# Altium footprint library Con Mod Jack PCB.PcbLib: 213 footprints (part 6 of 14)
Each footprint in its own frame and in the unit in brackets; x right, y up, seen from the top. Pads: shape width x height; smd on the part's side, far side on the other; paste and mask are expansions set on the pad; w line width, h text height; cw(c..) or ccw(c..) is an arc to the next point about the centre after c.
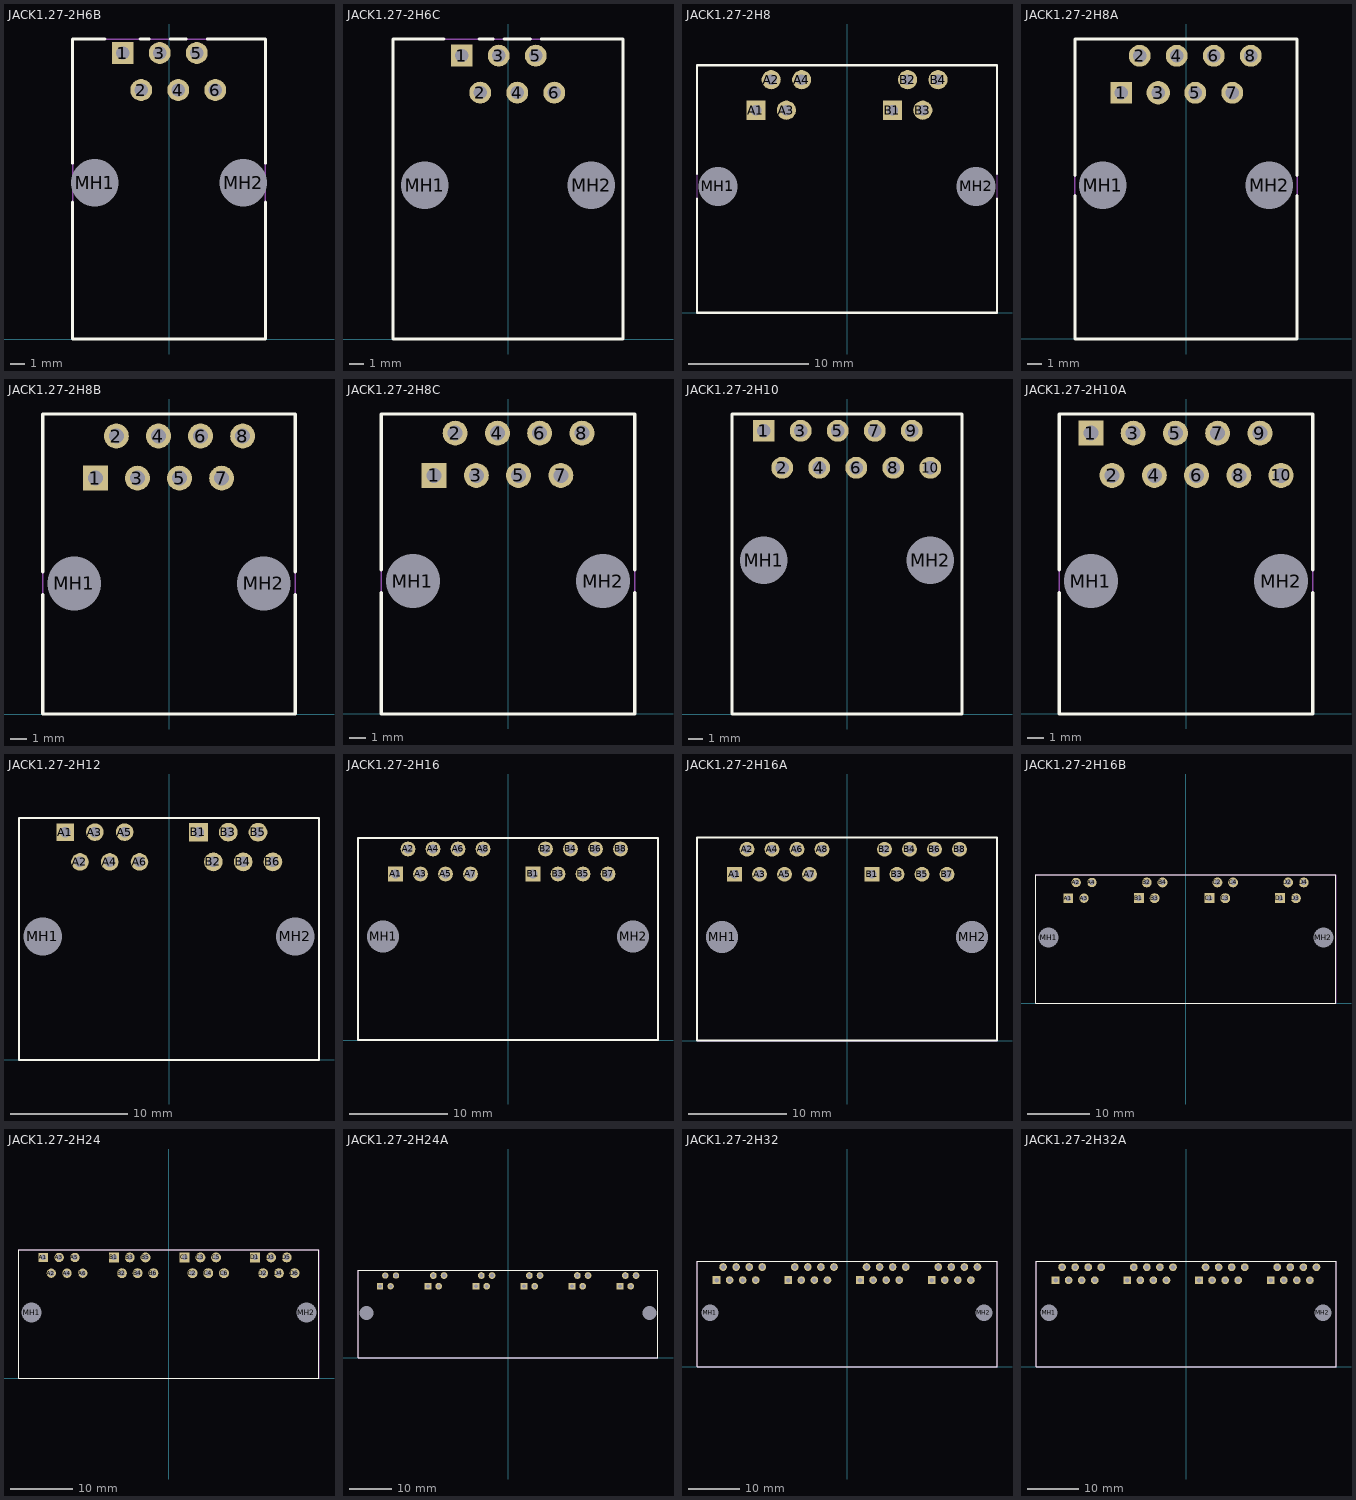
[diagram p5: the footprints below, top view; thin cyan lines are the x and y axes]

## JACK1.27-2H6B [mm] "Connector; PCB Jack, Thru-Hole; 1-Port; Unshielded without Lightpipes; Right Angle"
height 16
pads (8):
  rect 1.5x1.5 hole 0.9: 1(-3.175,19.61)
  round 1.5 hole 0.9: 2(-1.905,17.07) 3(-0.635,19.61) 4(0.635,17.07) 5(1.905,19.61) 6(3.175,17.07)
  round 2.95 hole 3.25 unplated: MH1(-5.08,10.72) MH2(5.08,10.72)
Top Overlay:
  lines w0.2: -6.605,9.388 -6.605,0 6.605,0 6.605,9.388 ; -6.605,12.052 -6.605,20.57 -4.375,20.57 ; -1.975,20.57 -1.355,20.57 ; 0.085,20.57 1.185,20.57 ; 2.625,20.57 6.605,20.57 6.605,12.052
Mechanical 13:
  lines w0.1: -6.605,0 -6.605,20.57 6.605,20.57 6.605,0 -6.605,0
3D body: height 16, standoff 0, extent -6.605,0 6.605,20.57

## JACK1.27-2H6C [mm] "Connector; PCB Jack, Thru-Hole; 1-Port, 8 Positions, 6 Loaded; Unshielded without Lightpipes; Right Angle"
height 12.83
pads (8):
  rect 1.5x1.5 hole 0.9: 1(-3.175,19.43)
  round 1.5 hole 0.9: 2(-1.905,16.89) 3(-0.635,19.43) 4(0.635,16.89) 5(1.905,19.43) 6(3.175,16.89)
  round 2.95 hole 3.25 unplated: MH1(-5.715,10.54) MH2(5.715,10.54)
Top Overlay:
  lines w0.2: -4.375,20.57 -7.875,20.57 -7.875,0 7.875,0 7.875,20.57 2.28,20.57 ; -1.975,20.57 -1.01,20.57 ; -0.26,20.57 1.53,20.57
Mechanical 13:
  lines w0.1: -7.875,0 -7.875,20.57 7.875,20.57 7.875,0 -7.875,0
3D body: height 12.83, standoff 0, extent -7.875,0 7.875,20.57

## JACK1.27-2H8 [mm] "Connector; PCB Jack, Thru-Hole; 2-Port, 6 Positions, 4 Loaded; Unshielded without Lightpipes; Right Angle"
height 12.83
pads (10):
  rect 1.6x1.6 hole 0.9: A1(-7.595,16.89) B1(3.785,16.89)
  round 1.6 hole 0.9: A2(-6.325,19.43) A3(-5.055,16.89) A4(-3.785,19.43) B2(5.055,19.43) B3(6.325,16.89) B4(7.595,19.43)
  round 2.95 hole 3.25 unplated: MH1(-10.77,10.54) MH2(10.77,10.54)
Top Overlay:
  lines w0.2: -12.512,9.509 -12.512,0 12.512,0 12.512,9.509 ; -12.512,11.571 -12.512,20.63 12.512,20.63 12.512,11.571
Mechanical 13:
  lines w0.1: -12.512,0 -12.512,20.63 12.512,20.63 12.512,0 -12.512,0
3D body: height 12.83, standoff 0, extent -12.512,0 12.512,20.63

## JACK1.27-2H8A [mm] "Connector; PCB Jack, Thru-Hole; 1-Port; Unshielded without Lightpipes; Right Angle"
height 18.92
pads (10):
  rect 1.5x1.5 hole 0.9: 1(-4.445,16.89)
  round 1.5 hole 0.9: 2(-3.175,19.43) 4(-0.635,19.43) 5(0.635,16.89) 6(1.905,19.43) 7(3.175,16.89) 8(4.445,19.43)
  round 1.6 hole 0.9: 3(-1.905,16.89)
  round 2.95 hole 3.25 unplated: MH1(-5.715,10.54) MH2(5.715,10.54)
Top Overlay:
  lines w0.2: -7.62,9.853 -7.62,0 7.62,0 7.62,9.853 ; -7.62,11.227 -7.62,20.58 7.62,20.58 7.62,11.227
Mechanical 13:
  lines w0.1: -7.62,0 -7.62,20.58 7.62,20.58 7.62,0 -7.62,0
3D body: height 18.92, standoff 0, extent -7.62,0 7.62,20.58

## JACK1.27-2H8B [mm] "Connector; PCB Jack, Thru-Hole; 1-Port, 8 Positions, 8 Loaded; Unshielded without Lightpipes; Right Angle"
height 8.65
pads (10):
  rect 1.5x1.5 hole 0.9: 1(-4.445,14.23)
  round 1.5 hole 0.9: 2(-3.175,16.77) 3(-1.905,14.23) 4(-0.635,16.77) 5(0.635,14.23) 6(1.905,16.77) 7(3.175,14.23) 8(4.445,16.77)
  round 2.95 hole 3.25 unplated: MH1(-5.715,7.88) MH2(5.715,7.88)
Top Overlay:
  lines w0.2: -7.62,7.193 -7.62,0 7.62,0 7.62,7.193 ; -7.62,8.567 -7.62,18.1 7.62,18.1 7.62,8.567
Mechanical 13:
  lines w0.1: -7.62,0 -7.62,18.1 7.62,18.1 7.62,0 -7.62,0
3D body: height 8.65, standoff 0, extent -7.62,0 7.62,18.1

## JACK1.27-2H8C [mm] "Connector; PCB Jack, Thru-Hole; 1-Port, 8 Positions, 8 Loaded; Unshielded without Lightpipes; Right Angle"
height 11.58
pads (10):
  rect 1.5x1.5 hole 0.9: 1(-4.445,14.344)
  round 1.5 hole 0.9: 2(-3.175,16.884) 3(-1.905,14.344) 4(-0.635,16.884) 5(0.635,14.344) 6(1.905,16.884) 7(3.175,14.344) 8(4.445,16.884)
  round 2.95 hole 3.25 unplated: MH1(-5.715,7.994) MH2(5.715,7.994)
Top Overlay:
  lines w0.2: -7.62,7.307 -7.62,0 7.62,0 7.62,7.307 ; -7.62,8.681 -7.62,18.034 7.62,18.034 7.62,8.681
Mechanical 13:
  lines w0.1: -7.62,0 -7.62,18.034 7.62,18.034 7.62,0 -7.62,0
3D body: height 11.58, standoff 0, extent -7.62,0 7.62,18.034

## JACK1.27-2H10 [mm] "Connector; PCB Jack, Thru-Hole; 1-Port, 8 Positions, 10 Loaded; Shielded without Lightpipes; Right Angle"
height 12.83
pads (12):
  rect 1.5x1.5 hole 0.9: 1(-5.715,19.43)
  round 1.5 hole 0.9: 2(-4.445,16.89) 3(-3.175,19.43) 4(-1.905,16.89) 5(-0.635,19.43) 6(0.635,16.89) 7(1.905,19.43) 8(3.175,16.89) 9(4.445,19.43) 10(5.715,16.89)
  round 2.95 hole 3.25 unplated: MH1(-5.715,10.54) MH2(5.715,10.54)
Top Overlay:
  lines w0.2: -7.875,0 7.875,0 7.875,20.58 -7.875,20.58 -7.875,0
Mechanical 13:
  lines w0.1: -7.875,0 -7.875,20.58 7.875,20.58 7.875,0 -7.875,0
3D body: height 12.83, standoff 0, extent -7.875,0 7.875,20.58

## JACK1.27-2H10A [mm] "Connector; PCB Jack, Thru-Hole; 1-Port, 8 Positions, 10 Loaded; Unshielded without Lightpipes; Right Angle"
height 11.58
pads (12):
  rect 1.5x1.5 hole 0.9: 1(-5.715,16.884)
  round 1.5 hole 0.9: 2(-4.445,14.344) 3(-3.175,16.884) 4(-1.905,14.344) 5(-0.635,16.884) 6(0.635,14.344) 7(1.905,16.884) 8(3.175,14.344) 9(4.445,16.884) 10(5.715,14.344)
  round 2.95 hole 3.25 unplated: MH1(-5.715,7.994) MH2(5.715,7.994)
Top Overlay:
  lines w0.2: -7.62,7.307 -7.62,0 7.62,0 7.62,7.307 ; -7.62,8.681 -7.62,18.034 7.62,18.034 7.62,8.681
Mechanical 13:
  lines w0.1: -7.62,0 -7.62,18.034 7.62,18.034 7.62,0 -7.62,0
3D body: height 11.58, standoff 0, extent -7.62,0 7.62,18.034

## JACK1.27-2H12 [mm] "Connector; PCB Jack, Thru-Hole; 2-Port, 6 Positions, 6 Loaded; Unshielded without Lightpipes; Right Angle"
height 12.83
pads (14):
  rect 1.5x1.5 hole 0.9: A1(-8.865,19.43)
  round 1.5 hole 0.9: A2(-7.595,16.89) A3(-6.325,19.43) A4(-5.055,16.89) A5(-3.785,19.43) A6(-2.515,16.89)
  rect 1.6x1.6 hole 0.9: B1(2.515,19.43)
  round 1.6 hole 0.9: B2(3.785,16.89) B3(5.055,19.43) B4(6.325,16.89) B5(7.595,19.43) B6(8.865,16.89)
  round 2.95 hole 3.25 unplated: MH1(-10.77,10.54) MH2(10.77,10.54)
Top Overlay:
  lines w0.2: -12.795,0 12.795,0 12.795,20.63 -12.795,20.63 -12.795,0
Mechanical 13:
  lines w0.1: -12.795,0 -12.795,20.63 12.795,20.63 12.795,0 -12.795,0
3D body: height 12.83, standoff 0, extent -12.795,0 12.795,20.63

## JACK1.27-2H16 [mm] "Connector; PCB Jack, Thru-Hole; 2-Port, 8 Positions, 8 Loaded; Unshielded without Lightpipes; Right Angle"
height 12.83
pads (18):
  rect 1.5x1.5 hole 0.9: A1(-11.43,16.89) B1(2.54,16.89)
  round 1.5 hole 0.9: A2(-10.16,19.43) A3(-8.89,16.89) A4(-7.62,19.43) A5(-6.35,16.89) A6(-5.08,19.43) A7(-3.81,16.89) A8(-2.54,19.43) B2(3.81,19.43) B3(5.08,16.89) B4(6.35,19.43) B5(7.62,16.89) B6(8.89,19.43) B7(10.16,16.89) B8(11.43,19.43)
  round 2.95 hole 3.25 unplated: MH1(-12.7,10.54) MH2(12.7,10.54)
Top Overlay:
  lines w0.2: -15.24,0 -15.24,20.57 15.24,20.57 15.24,0 -15.24,0
Mechanical 13:
  lines w0.1: -15.24,0 -15.24,20.57 15.24,20.57 15.24,0 -15.24,0
3D body: height 12.83, standoff 0, extent -15.24,0 15.24,20.57

## JACK1.27-2H16A [mm] "Connector; PCB Jack, Thru-Hole; 2-Port, 8 Positions, 8 Loaded; Unshielded without Lightpipes; Right Angle"
height 12.83
pads (18):
  rect 1.5x1.5 hole 0.9: A1(-11.43,16.89) B1(2.54,16.89)
  round 1.5 hole 0.9: A2(-10.16,19.43) A3(-8.89,16.89) A4(-7.62,19.43) A5(-6.35,16.89) A6(-5.08,19.43) A7(-3.81,16.89) A8(-2.54,19.43) B2(3.81,19.43) B3(5.08,16.89) B4(6.35,19.43) B5(7.62,16.89) B6(8.89,19.43) B7(10.16,16.89) B8(11.43,19.43)
  round 2.95 hole 3.25 unplated: MH1(-12.7,10.54) MH2(12.7,10.54)
Top Overlay:
  lines w0.2: -15.24,0 15.24,0 15.24,20.63 -15.24,20.63 -15.24,0
Mechanical 13:
  lines w0.1: -15.24,0 -15.24,20.63 15.24,20.63 15.24,0 -15.24,0
3D body: height 12.83, standoff 0, extent -15.24,0 15.24,20.63

## JACK1.27-2H16B [mm] "Connector; PCB Jack, Thru-Hole; 4-Port, 6 Positions, 4 Loaded; Unshielded without Lightpipes; Right Angle"
height 12.83
pads (18):
  rect 1.5x1.5 hole 0.9: A1(-18.974,16.89)
  round 1.5 hole 0.9: A2(-17.704,19.43) A3(-16.434,16.89) A4(-15.164,19.43)
  rect 1.6x1.6 hole 0.9: B1(-7.595,16.89) C1(3.785,16.89) D1(15.164,16.89)
  round 1.6 hole 0.9: B2(-6.325,19.43) B3(-5.055,16.89) B4(-3.785,19.43) C2(5.055,19.43) C3(6.325,16.89) C4(7.595,19.43) D2(16.434,19.43) D3(17.704,16.89) D4(18.974,19.43)
  round 2.95 hole 3.25 unplated: MH1(-22.149,10.54) MH2(22.149,10.54)
Top Overlay:
  lines w0.2: -24.174,0 24.174,0 24.174,20.63 -24.174,20.63 -24.174,0
Mechanical 13:
  lines w0.1: -24.174,0 -24.174,20.63 24.174,20.63 24.174,0 -24.174,0
3D body: height 12.83, standoff 0, extent -24.174,0 24.174,20.63

## JACK1.27-2H24 [mm] "Connector; PCB Jack, Thru-Hole; 4-Port, 6 Positions, 6 Loaded; Unshielded without Lightpipes; Right Angle"
height 12.83
pads (26):
  rect 1.5x1.5 hole 0.9: A1(-20.244,19.43)
  round 1.5 hole 0.9: A2(-18.974,16.89) A3(-17.704,19.43) A4(-16.434,16.89) A5(-15.164,19.43) A6(-13.894,16.89)
  rect 1.6x1.6 hole 0.9: B1(-8.865,19.43) C1(2.515,19.43) D1(13.894,19.43)
  round 1.6 hole 0.9: B2(-7.595,16.89) B3(-6.325,19.43) B4(-5.055,16.89) B5(-3.785,19.43) B6(-2.515,16.89) C2(3.785,16.89) C3(5.055,19.43) C4(6.325,16.89) C5(7.595,19.43) C6(8.865,16.89) D2(15.164,16.89) D3(16.434,19.43) D4(17.704,16.89) D5(18.974,19.43) D6(20.244,16.89)
  round 2.95 hole 3.25 unplated: MH1(-22.149,10.54) MH2(22.149,10.54)
Top Overlay:
  lines w0.2: -24.174,0 24.174,0 24.174,20.63 -24.174,20.63 -24.174,0
Mechanical 13:
  lines w0.1: -24.174,0 -24.174,20.63 24.174,20.63 24.174,0 -24.174,0
3D body: height 12.83, standoff 0, extent -24.174,0 24.174,20.63

## JACK1.27-2H24A [mm] "Connector; PCB Jack, Thru-Hole; 6-Port, 6 Positions, 4 Loaded; Unshielded without Lightpipes; Right Angle"
height 12.83
pads (26):
  rect 1.5x1.5 hole 0.9: A1(-30.353,16.89)
  round 1.5 hole 0.9: A2(-29.083,19.43) A3(-27.813,16.89) A4(-26.543,19.43)
  rect 1.6x1.6 hole 0.9: B1(-18.974,16.89) C1(-7.595,16.89) D1(3.785,16.89) E1(15.164,16.89) F1(26.543,16.89)
  round 1.6 hole 0.9: B2(-17.704,19.43) B3(-16.434,16.89) B4(-15.164,19.43) C2(-6.325,19.43) C3(-5.055,16.89) C4(-3.785,19.43) D2(5.055,19.43) D3(6.325,16.89) D4(7.595,19.43) E2(16.434,19.43) E3(17.704,16.89) E4(18.974,19.43) F2(27.813,19.43) F3(29.083,16.89) F4(30.353,19.43)
  round 2.95 hole 3.25 unplated: MH1(-33.528,10.54) MH2(33.528,10.54)
Top Overlay:
  lines w0.2: -35.553,0 -35.553,20.63 35.553,20.63 35.553,0 -35.553,0
Mechanical 13:
  lines w0.1: -35.553,0 -35.553,20.63 35.553,20.63 35.553,0 -35.553,0
3D body: height 12.83, standoff 0, extent -35.553,0 35.553,20.63

## JACK1.27-2H32 [mm] "Connector; PCB Jack, Thru-Hole; 4-Port, 8 Positions, 8 Loaded; Unshielded without Lightpipes; Right Angle"
height 12.83
pads (34):
  rect 1.5x1.5 hole 0.9: A1(-25.4,16.89) B1(-11.43,16.89) C1(2.54,16.89) D1(16.51,16.89)
  round 1.5 hole 0.9: A2(-24.13,19.43) A3(-22.86,16.89) A4(-21.59,19.43) A5(-20.32,16.89) A6(-19.05,19.43) A7(-17.78,16.89) A8(-16.51,19.43) B2(-10.16,19.43) B3(-8.89,16.89) B4(-7.62,19.43) B5(-6.35,16.89) B6(-5.08,19.43) B7(-3.81,16.89) B8(-2.54,19.43) C2(3.81,19.43) C3(5.08,16.89) C4(6.35,19.43) C5(7.62,16.89) C6(8.89,19.43) C7(10.16,16.89) C8(11.43,19.43) D2(17.78,19.43) D3(19.05,16.89) D4(20.32,19.43) D5(21.59,16.89) D6(22.86,19.43) D7(24.13,16.89) D8(25.4,19.43)
  round 2.95 hole 3.25 unplated: MH1(-26.67,10.54) MH2(26.67,10.54)
Top Overlay:
  lines w0.2: -29.21,0 -29.21,20.57 29.21,20.57 29.21,0 -29.21,0
Mechanical 13:
  lines w0.1: -29.21,0 -29.21,20.57 29.21,20.57 29.21,0 -29.21,0
3D body: height 12.83, standoff 0, extent -29.21,0 29.21,20.57

## JACK1.27-2H32A [mm] "Connector; PCB Jack, Thru-Hole; 4-Port, 8 Positions, 8 Loaded; Unshielded without Lightpipes; Right Angle"
height 12.83
pads (34):
  rect 1.5x1.5 hole 0.9: A1(-25.4,16.89) B1(-11.43,16.89) C1(2.54,16.89) D1(16.51,16.89)
  round 1.5 hole 0.9: A2(-24.13,19.43) A3(-22.86,16.89) A4(-21.59,19.43) A5(-20.32,16.89) A6(-19.05,19.43) A7(-17.78,16.89) A8(-16.51,19.43) B2(-10.16,19.43) B3(-8.89,16.89) B4(-7.62,19.43) B5(-6.35,16.89) B6(-5.08,19.43) B7(-3.81,16.89) B8(-2.54,19.43) C2(3.81,19.43) C3(5.08,16.89) C4(6.35,19.43) C5(7.62,16.89) C6(8.89,19.43) C7(10.16,16.89) C8(11.43,19.43) D2(17.78,19.43) D3(19.05,16.89) D4(20.32,19.43) D5(21.59,16.89) D6(22.86,19.43) D7(24.13,16.89) D8(25.4,19.43)
  round 2.95 hole 3.25 unplated: MH1(-26.67,10.54) MH2(26.67,10.54)
Top Overlay:
  lines w0.2: -29.21,0 29.21,0 29.21,20.63 -29.21,20.63 -29.21,0
Mechanical 13:
  lines w0.1: -29.21,0 -29.21,20.63 29.21,20.63 29.21,0 -29.21,0
3D body: height 12.83, standoff 0, extent -29.21,0 29.21,20.63